# EAGLE library part 232-? (library con-3m)
Zero Insertion Force Socked Source: http://www.3M.com/ehpd
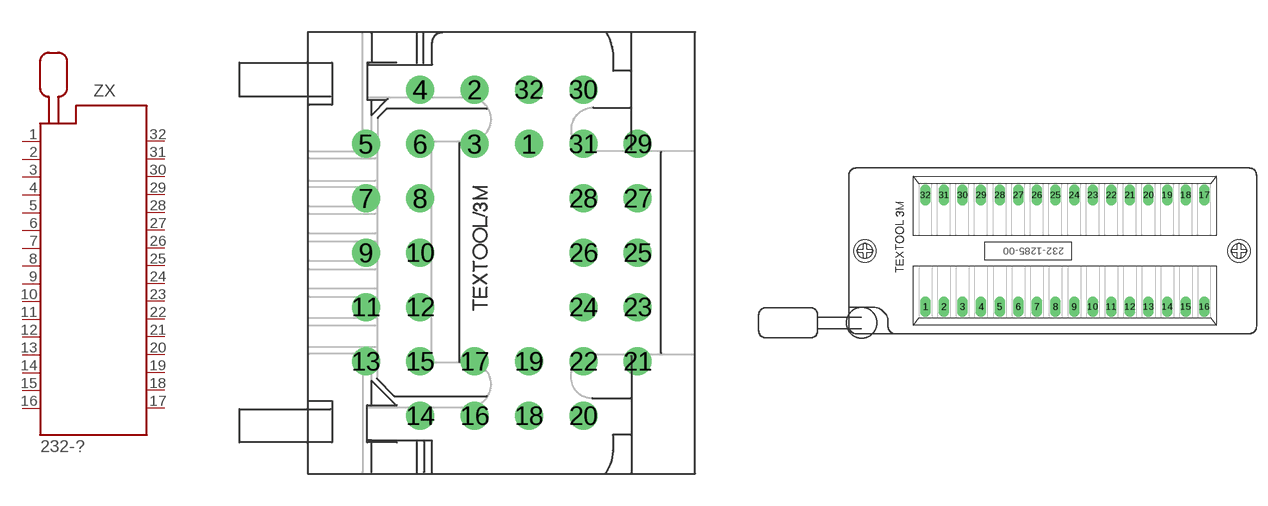
[diagram p11: symbol with the pads of 232-1271-00-1102JH; footprints 232-1271-00-1102JH, 232-1285-00-0602J]

Designator prefix ZX

## 232-1271-00-1102JH (MPN: 232-1271-00-1102JH; OC_FARNELL: unknown; OC_NEWARK: 80R8874)  [232-1271-00-1102JH]
1  1  pas
2  2  pas
3  3  pas
4  4  pas
5  5  pas
6  6  pas
7  7  pas
8  8  pas
9  9  pas
10  10  pas
11  11  pas
12  12  pas
13  13  pas
14  14  pas
15  15  pas
16  16  pas
17  17  pas
18  18  pas
19  19  pas
20  20  pas
21  21  pas
22  22  pas
23  23  pas
24  24  pas
25  25  pas
26  26  pas
27  27  pas
28  28  pas
29  29  pas
30  30  pas
31  31  pas
32  32  pas

## 232-1285-00-0602J (MF: 3M; MPN: 232-1285-00-0602J; OC_FARNELL: 9897402; OC_NEWARK: 85K7839)  [232-1285-00-0602J]
Pads as for 232-1271-00-1102JH

## Footprint 232-1271-00-1102JH (pad centres in mm)
OEM LCC Sockets 32 pol Source: http://www.3M.com/ehpd
drill 0.8 pad 1.27 round: 1 1.27,5.08; 2 -1.27,7.62; 3 -1.27,5.08; 4 -3.81,7.62; 5 -6.35,5.08; 6 -3.81,5.08; 7 -6.35,2.54; 8 -3.81,2.54; 9 -6.35,0; 10 -3.81,0; 11 -6.35,-2.54; 12 -3.81,-2.54; 13 -6.35,-5.08; 14 -3.81,-7.62; 15 -3.81,-5.08; 16 -1.27,-7.62; 17 -1.27,-5.08; 18 1.27,-7.62; 19 1.27,-5.08; 20 3.81,-7.62; 21 6.35,-5.08; 22 3.81,-5.08; 23 6.35,-2.54; 24 3.81,-2.54; 25 6.35,0; 26 3.81,0; 27 6.35,2.54; 28 3.81,2.54; 29 6.35,5.08; 30 3.81,7.62; 31 3.81,5.08; 32 1.27,7.62

## Footprint 232-1285-00-0602J (pad centres in mm)
3M TEXTOOL 32 pol. DIP Lever actuated zero insertion force mechanism Hersteller: 3M TEXTOOL Herstellerbez.: 232-1285-00-0602J Source: http://www.3M.com/ehpd
drill 0.9 long: 1 -19.05,-7.62; 2 -16.51,-7.62; 3 -13.97,-7.62; 4 -11.43,-7.62; 5 -8.89,-7.62; 6 -6.35,-7.62; 7 -3.81,-7.62; 8 -1.27,-7.62; 9 1.27,-7.62; 10 3.81,-7.62; 11 6.35,-7.62; 12 8.89,-7.62; 13 11.43,-7.62; 14 13.97,-7.62; 15 16.51,-7.62; 16 19.05,-7.62; 17 19.05,7.62; 18 16.51,7.62; 19 13.97,7.62; 20 11.43,7.62; 21 8.89,7.62; 22 6.35,7.62; 23 3.81,7.62; 24 1.27,7.62; 25 -1.27,7.62; 26 -3.81,7.62; 27 -6.35,7.62; 28 -8.89,7.62; 29 -11.43,7.62; 30 -13.97,7.62; 31 -16.51,7.62; 32 -19.05,7.62
hole 2 at 23.78,0
hole 2 at -27.28,0